# Altium integrated library TI Data Converters Digital to Analog Converter.IntLib: 1533 symbols (part 64 of 99)
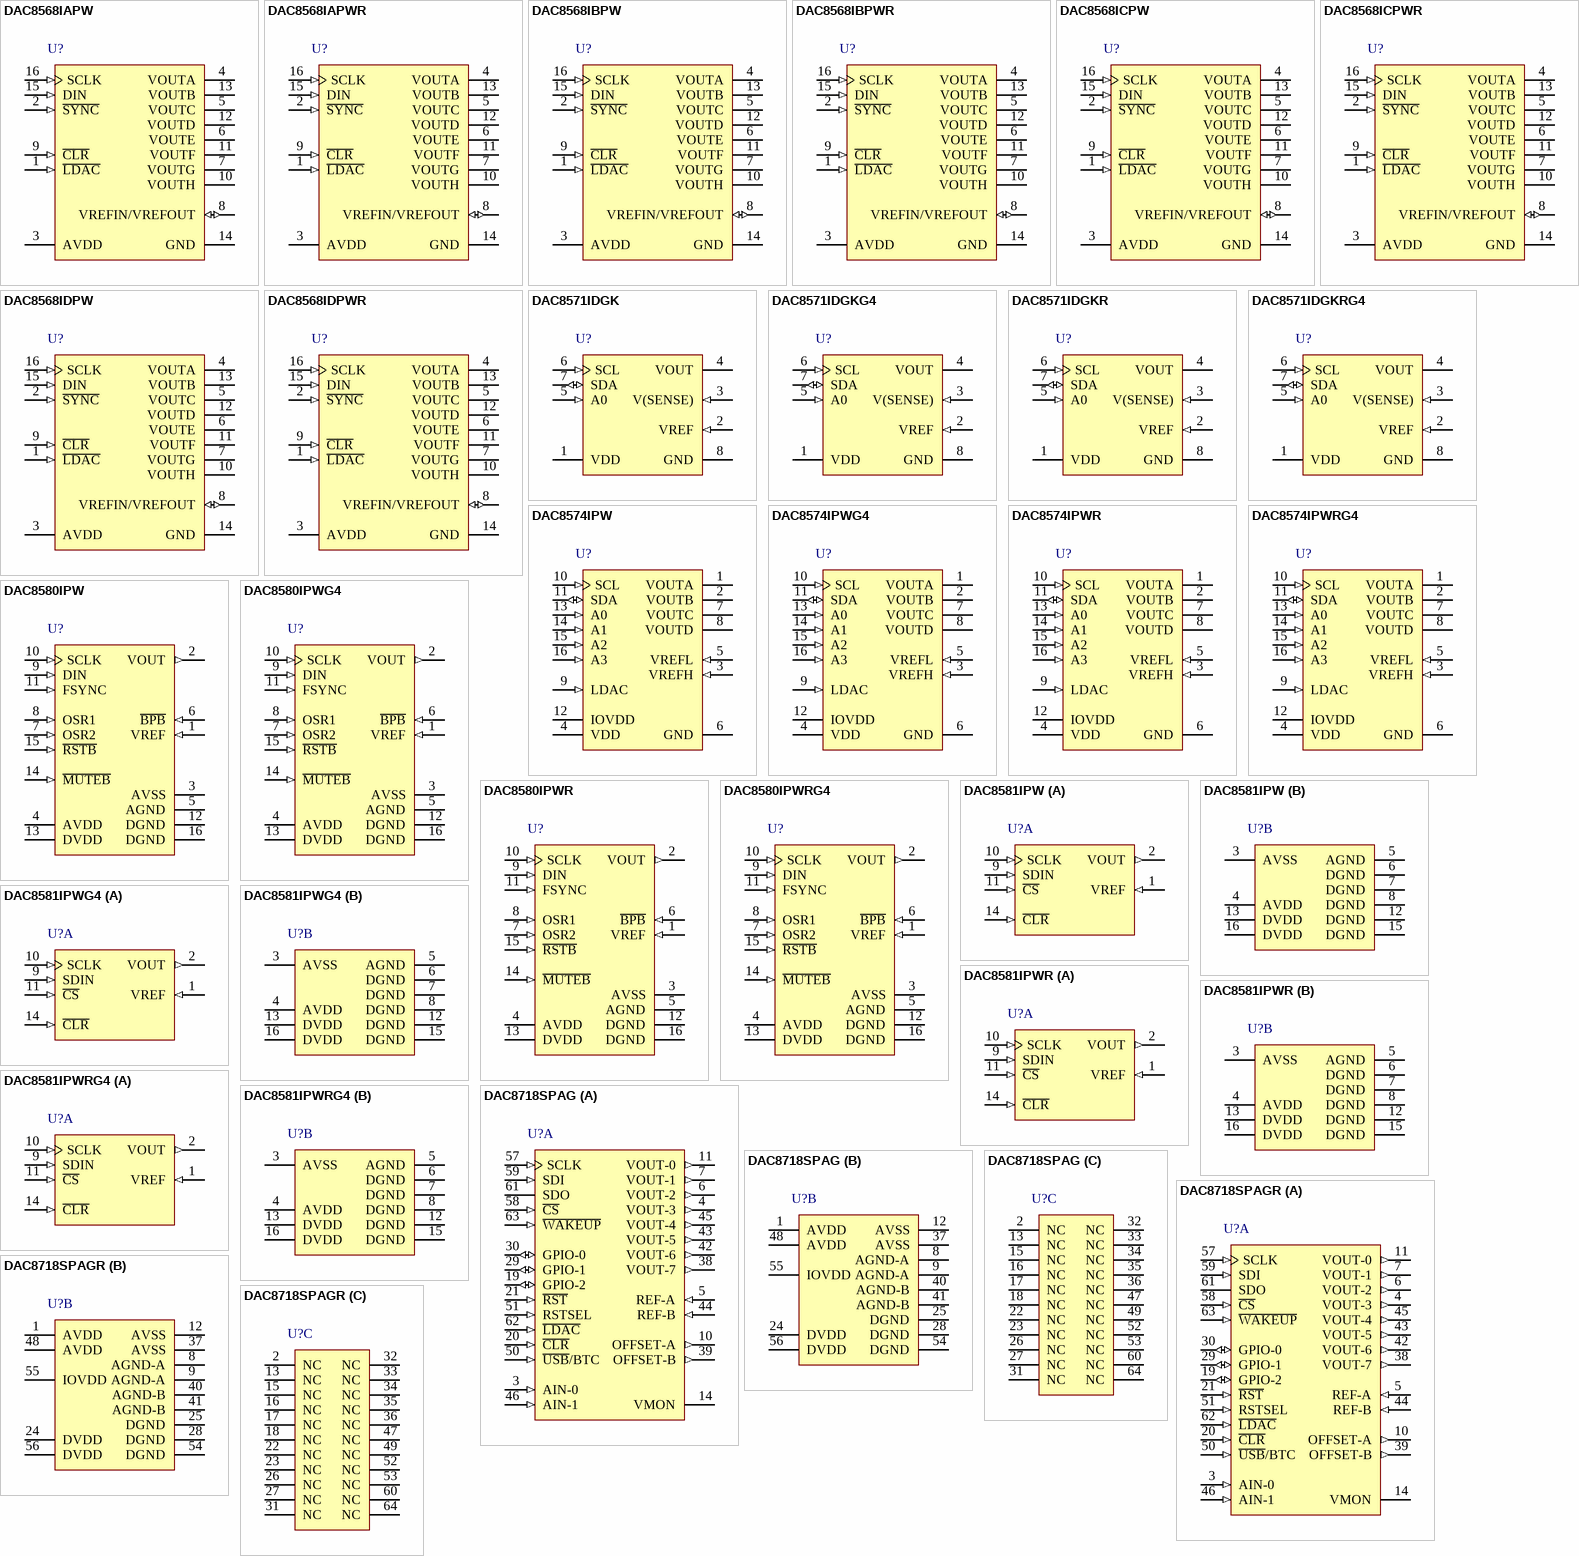
[diagram p136: symbols DAC8568IAPW to DAC8718SPAGR]

## DAC8568IBPW
designator U?
16-Bit, Octal Channel, Ultra-Low Glitch, Voltage Output DAC with 2.5 V, 2 ppm/degC Internal Reference, -40 to 125 degC, 16-pin SOP (PW16), Green (RoHS & no Sb/Br); Manufacturer: Texas Instruments; PartNumber: DAC8568IBPW; DAC Channels: 8; DNL(Max)(+/-LSB): 1; INL(Max)(+/-LSB): 12; Interface: Serial SPI; Power Consumption(Typ)(mW): 2.2; Resolution(Bits): 16; Settling Time(us): 5; SFDR(dB): 63; SNR(dB): 83; SubFamily: Precision DAC (=<10MSPS); DatasheetVersion: SBAS430D; PackageVersion: 4040064-4/G, 02/2011; PackageReference: PW16; PackageDescription: 16-Pin Plastic Small Outline, Body 5 x 4.4 mm, Pitch 0.65 mm; Supplier 1: Digi-Key; Supplier Part Number 1: 296-24445-5-ND; Supplier 2: Newark; Supplier Part Number 2: 09R4531; Supplier 3: Mouser; Supplier Part Number 3: 595-DAC8568IBPW; Eco-Plan: Green (RoHS & no Sb/Br); Mounting Technology: Surface Mount; Code_JEDEC: MO-153; ComponentLink1Description: Manufacturer URL; ComponentLink1URL: http://www.ti.com/; ComponentLink2Description: Datasheet; ComponentLink2URL: http://www.ti.com/general/docs/lit/getliterature.tsp?genericPartNumber=DAC8568&fileType=pdf; ComponentLink3Description: Package Specification; ComponentLink3URL: http://www.ti.com/lit/ml/mpds361/mpds361.pdf
footprint TI-PW16_N (SOP, 16-Leads, Body 5x4.4mm, Pitch 0.65mm, IPC Medium Density)
footprint TI-PW16_L (SOP, 16-Leads, Body 5x4.4mm, Pitch 0.65mm, IPC High Density)
footprint TI-PW16_M (SOP, 16-Leads, Body 5x4.4mm, Pitch 0.65mm, IPC Low Density)
pins: 1 ~{LDAC} (in) "Load DACs.", 2 ~{SYNC} (in) "Level-triggered control input (active low). This input is the frame synchronization signal for the input data. When S\Y\N\C\ goes low, it enables the input shift register, and data are sampled on subsequen falling clock (See Datasheet)", 3 AVDD (power) "Power-supply input, 2.7V to 5.5V", 4 VOUTA (hiz) "Analog output voltage from DAC A", 5 VOUTC (hiz) "Analog output voltage from DAC C", 6 VOUTE (hiz) "Analog output voltage from DAC E", 7 VOUTG (hiz) "Analog output voltage from DAC G", 8 VREFIN/VREFOUT (io) "Positive reference input / reference output 2.5V if internal reference used", 9 ~{CLR} (in) "Asynchronous clear input.", 10 VOUTH (hiz) "Analog output voltage from DAC H", 11 VOUTF (hiz) "Analog output voltage from DAC F", 12 VOUTD (hiz) "Analog output voltage from DAC D", 13 VOUTB (hiz) "Analog output voltage from DAC B", 14 GND (power) "Ground reference point for all circuitry on the devic", 15 DIN (in) "Serial data input. Data are clocked into the 32-bit input shift register on each falling edge of the serial clock input. Schmitt-Trigger logic input.", 16 SCLK (in) "Serial clock input. Data can be transferred at rates up to 50MHz. Schmitt-Trigger logic input."

## DAC8568IBPWR
designator U?
16-Bit, Octal Channel, Ultra-Low Glitch, Voltage Output DAC with 2.5 V, 2 ppm/degC Internal Reference, -40 to 125 degC, 16-pin SOP (PW16), Green (RoHS & no Sb/Br); Manufacturer: Texas Instruments; PartNumber: DAC8568IBPWR; DAC Channels: 8; DNL(Max)(+/-LSB): 1; INL(Max)(+/-LSB): 12; Interface: Serial SPI; Power Consumption(Typ)(mW): 2.2; Resolution(Bits): 16; Settling Time(us): 5; SFDR(dB): 63; SNR(dB): 83; SubFamily: Precision DAC (=<10MSPS); DatasheetVersion: SBAS430D; PackageVersion: 4040064-4/G, 02/2011; PackageReference: PW16; PackageDescription: 16-Pin Plastic Small Outline, Body 5 x 4.4 mm, Pitch 0.65 mm; Supplier 1: Digi-Key; Supplier Part Number 1: DAC8568IBPWR-ND; Supplier 2: Mouser; Supplier Part Number 2: 595-DAC8568IBPWR; Eco-Plan: Green (RoHS & no Sb/Br); Mounting Technology: Surface Mount; Code_JEDEC: MO-153; ComponentLink1Description: Manufacturer URL; ComponentLink1URL: http://www.ti.com/; ComponentLink2Description: Datasheet; ComponentLink2URL: http://www.ti.com/general/docs/lit/getliterature.tsp?genericPartNumber=DAC8568&fileType=pdf; ComponentLink3Description: Package Specification; ComponentLink3URL: http://www.ti.com/lit/ml/mpds361/mpds361.pdf
footprint TI-PW16_N (SOP, 16-Leads, Body 5x4.4mm, Pitch 0.65mm, IPC Medium Density)
footprint TI-PW16_L (SOP, 16-Leads, Body 5x4.4mm, Pitch 0.65mm, IPC High Density)
footprint TI-PW16_M (SOP, 16-Leads, Body 5x4.4mm, Pitch 0.65mm, IPC Low Density)
pins: 1 ~{LDAC} (in) "Load DACs.", 2 ~{SYNC} (in) "Level-triggered control input (active low). This input is the frame synchronization signal for the input data. When S\Y\N\C\ goes low, it enables the input shift register, and data are sampled on subsequen falling clock (See Datasheet)", 3 AVDD (power) "Power-supply input, 2.7V to 5.5V", 4 VOUTA (hiz) "Analog output voltage from DAC A", 5 VOUTC (hiz) "Analog output voltage from DAC C", 6 VOUTE (hiz) "Analog output voltage from DAC E", 7 VOUTG (hiz) "Analog output voltage from DAC G", 8 VREFIN/VREFOUT (io) "Positive reference input / reference output 2.5V if internal reference used", 9 ~{CLR} (in) "Asynchronous clear input.", 10 VOUTH (hiz) "Analog output voltage from DAC H", 11 VOUTF (hiz) "Analog output voltage from DAC F", 12 VOUTD (hiz) "Analog output voltage from DAC D", 13 VOUTB (hiz) "Analog output voltage from DAC B", 14 GND (power) "Ground reference point for all circuitry on the devic", 15 DIN (in) "Serial data input. Data are clocked into the 32-bit input shift register on each falling edge of the serial clock input. Schmitt-Trigger logic input.", 16 SCLK (in) "Serial clock input. Data can be transferred at rates up to 50MHz. Schmitt-Trigger logic input."

## DAC8568ICPW
designator U?
16-Bit, Octal Channel, Ultra-Low Glitch, Voltage Output DAC with 2.5 V, 2 ppm/degC Internal Reference, -40 to 125 degC, 16-pin SOP (PW16), Green (RoHS & no Sb/Br); Manufacturer: Texas Instruments; PartNumber: DAC8568ICPW; DAC Channels: 8; DNL(Max)(+/-LSB): 1; INL(Max)(+/-LSB): 12; Interface: Serial SPI; Power Consumption(Typ)(mW): 2.2; Resolution(Bits): 16; Settling Time(us): 5; SFDR(dB): 63; SNR(dB): 83; SubFamily: Precision DAC (=<10MSPS); DatasheetVersion: SBAS430D; PackageVersion: 4040064-4/G, 02/2011; PackageReference: PW16; PackageDescription: 16-Pin Plastic Small Outline, Body 5 x 4.4 mm, Pitch 0.65 mm; Supplier 1: Digi-Key; Supplier Part Number 1: 296-24446-5-ND; Supplier 2: Farnell; Supplier Part Number 2: 1735563; Supplier 3: Newark; Supplier Part Number 3: 08R4454; Supplier 4: Mouser; Supplier Part Number 4: 595-DAC8568ICPW; Eco-Plan: Green (RoHS & no Sb/Br); Mounting Technology: Surface Mount; Code_JEDEC: MO-153; ComponentLink1Description: Manufacturer URL; ComponentLink1URL: http://www.ti.com/; ComponentLink2Description: Datasheet; ComponentLink2URL: http://www.ti.com/general/docs/lit/getliterature.tsp?genericPartNumber=DAC8568&fileType=pdf; ComponentLink3Description: Package Specification; ComponentLink3URL: http://www.ti.com/lit/ml/mpds361/mpds361.pdf
footprint TI-PW16_N (SOP, 16-Leads, Body 5x4.4mm, Pitch 0.65mm, IPC Medium Density)
footprint TI-PW16_L (SOP, 16-Leads, Body 5x4.4mm, Pitch 0.65mm, IPC High Density)
footprint TI-PW16_M (SOP, 16-Leads, Body 5x4.4mm, Pitch 0.65mm, IPC Low Density)
pins: 1 ~{LDAC} (in) "Load DACs.", 2 ~{SYNC} (in) "Level-triggered control input (active low). This input is the frame synchronization signal for the input data. When S\Y\N\C\ goes low, it enables the input shift register, and data are sampled on subsequen falling clock (See Datasheet)", 3 AVDD (power) "Power-supply input, 2.7V to 5.5V", 4 VOUTA (hiz) "Analog output voltage from DAC A", 5 VOUTC (hiz) "Analog output voltage from DAC C", 6 VOUTE (hiz) "Analog output voltage from DAC E", 7 VOUTG (hiz) "Analog output voltage from DAC G", 8 VREFIN/VREFOUT (io) "Positive reference input / reference output 2.5V if internal reference used", 9 ~{CLR} (in) "Asynchronous clear input.", 10 VOUTH (hiz) "Analog output voltage from DAC H", 11 VOUTF (hiz) "Analog output voltage from DAC F", 12 VOUTD (hiz) "Analog output voltage from DAC D", 13 VOUTB (hiz) "Analog output voltage from DAC B", 14 GND (power) "Ground reference point for all circuitry on the devic", 15 DIN (in) "Serial data input. Data are clocked into the 32-bit input shift register on each falling edge of the serial clock input. Schmitt-Trigger logic input.", 16 SCLK (in) "Serial clock input. Data can be transferred at rates up to 50MHz. Schmitt-Trigger logic input."

## DAC8568ICPWR
designator U?
16-Bit, Octal Channel, Ultra-Low Glitch, Voltage Output DAC with 2.5 V, 2 ppm/degC Internal Reference, -40 to 125 degC, 16-pin SOP (PW16), Green (RoHS & no Sb/Br); Manufacturer: Texas Instruments; PartNumber: DAC8568ICPWR; DAC Channels: 8; DNL(Max)(+/-LSB): 1; INL(Max)(+/-LSB): 12; Interface: Serial SPI; Power Consumption(Typ)(mW): 2.2; Resolution(Bits): 16; Settling Time(us): 5; SFDR(dB): 63; SNR(dB): 83; SubFamily: Precision DAC (=<10MSPS); DatasheetVersion: SBAS430D; PackageVersion: 4040064-4/G, 02/2011; PackageReference: PW16; PackageDescription: 16-Pin Plastic Small Outline, Body 5 x 4.4 mm, Pitch 0.65 mm; Supplier 1: Digi-Key; Supplier Part Number 1: DAC8568ICPWR-ND; Supplier 2: Mouser; Supplier Part Number 2: 595-DAC8568ICPWR; Eco-Plan: Green (RoHS & no Sb/Br); Mounting Technology: Surface Mount; Code_JEDEC: MO-153; ComponentLink1Description: Manufacturer URL; ComponentLink1URL: http://www.ti.com/; ComponentLink2Description: Datasheet; ComponentLink2URL: http://www.ti.com/general/docs/lit/getliterature.tsp?genericPartNumber=DAC8568&fileType=pdf; ComponentLink3Description: Package Specification; ComponentLink3URL: http://www.ti.com/lit/ml/mpds361/mpds361.pdf
footprint TI-PW16_N (SOP, 16-Leads, Body 5x4.4mm, Pitch 0.65mm, IPC Medium Density)
footprint TI-PW16_L (SOP, 16-Leads, Body 5x4.4mm, Pitch 0.65mm, IPC High Density)
footprint TI-PW16_M (SOP, 16-Leads, Body 5x4.4mm, Pitch 0.65mm, IPC Low Density)
pins: 1 ~{LDAC} (in) "Load DACs.", 2 ~{SYNC} (in) "Level-triggered control input (active low). This input is the frame synchronization signal for the input data. When S\Y\N\C\ goes low, it enables the input shift register, and data are sampled on subsequen falling clock (See Datasheet)", 3 AVDD (power) "Power-supply input, 2.7V to 5.5V", 4 VOUTA (hiz) "Analog output voltage from DAC A", 5 VOUTC (hiz) "Analog output voltage from DAC C", 6 VOUTE (hiz) "Analog output voltage from DAC E", 7 VOUTG (hiz) "Analog output voltage from DAC G", 8 VREFIN/VREFOUT (io) "Positive reference input / reference output 2.5V if internal reference used", 9 ~{CLR} (in) "Asynchronous clear input.", 10 VOUTH (hiz) "Analog output voltage from DAC H", 11 VOUTF (hiz) "Analog output voltage from DAC F", 12 VOUTD (hiz) "Analog output voltage from DAC D", 13 VOUTB (hiz) "Analog output voltage from DAC B", 14 GND (power) "Ground reference point for all circuitry on the devic", 15 DIN (in) "Serial data input. Data are clocked into the 32-bit input shift register on each falling edge of the serial clock input. Schmitt-Trigger logic input.", 16 SCLK (in) "Serial clock input. Data can be transferred at rates up to 50MHz. Schmitt-Trigger logic input."

## DAC8568IDPW
designator U?
16-Bit, Octal Channel, Ultra-Low Glitch, Voltage Output DAC with 2.5 V, 2 ppm/degC Internal Reference, -40 to 125 degC, 16-pin SOP (PW16), Green (RoHS & no Sb/Br); Manufacturer: Texas Instruments; PartNumber: DAC8568IDPW; DAC Channels: 8; DNL(Max)(+/-LSB): 1; INL(Max)(+/-LSB): 12; Interface: Serial SPI; Power Consumption(Typ)(mW): 2.2; Resolution(Bits): 16; Settling Time(us): 5; SFDR(dB): 63; SNR(dB): 83; SubFamily: Precision DAC (=<10MSPS); DatasheetVersion: SBAS430D; PackageVersion: 4040064-4/G, 02/2011; PackageReference: PW16; PackageDescription: 16-Pin Plastic Small Outline, Body 5 x 4.4 mm, Pitch 0.65 mm; Supplier 1: Digi-Key; Supplier Part Number 1: 296-24447-5-ND; Supplier 2: Newark; Supplier Part Number 2: 09R4534; Supplier 3: Mouser; Supplier Part Number 3: 595-DAC8568IDPW; Eco-Plan: Green (RoHS & no Sb/Br); Mounting Technology: Surface Mount; Code_JEDEC: MO-153; ComponentLink1Description: Manufacturer URL; ComponentLink1URL: http://www.ti.com/; ComponentLink2Description: Datasheet; ComponentLink2URL: http://www.ti.com/general/docs/lit/getliterature.tsp?genericPartNumber=DAC8568&fileType=pdf; ComponentLink3Description: Package Specification; ComponentLink3URL: http://www.ti.com/lit/ml/mpds361/mpds361.pdf
footprint TI-PW16_N (SOP, 16-Leads, Body 5x4.4mm, Pitch 0.65mm, IPC Medium Density)
footprint TI-PW16_L (SOP, 16-Leads, Body 5x4.4mm, Pitch 0.65mm, IPC High Density)
footprint TI-PW16_M (SOP, 16-Leads, Body 5x4.4mm, Pitch 0.65mm, IPC Low Density)
pins: 1 ~{LDAC} (in) "Load DACs.", 2 ~{SYNC} (in) "Level-triggered control input (active low). This input is the frame synchronization signal for the input data. When S\Y\N\C\ goes low, it enables the input shift register, and data are sampled on subsequen falling clock (See Datasheet)", 3 AVDD (power) "Power-supply input, 2.7V to 5.5V", 4 VOUTA (hiz) "Analog output voltage from DAC A", 5 VOUTC (hiz) "Analog output voltage from DAC C", 6 VOUTE (hiz) "Analog output voltage from DAC E", 7 VOUTG (hiz) "Analog output voltage from DAC G", 8 VREFIN/VREFOUT (io) "Positive reference input / reference output 2.5V if internal reference used", 9 ~{CLR} (in) "Asynchronous clear input.", 10 VOUTH (hiz) "Analog output voltage from DAC H", 11 VOUTF (hiz) "Analog output voltage from DAC F", 12 VOUTD (hiz) "Analog output voltage from DAC D", 13 VOUTB (hiz) "Analog output voltage from DAC B", 14 GND (power) "Ground reference point for all circuitry on the devic", 15 DIN (in) "Serial data input. Data are clocked into the 32-bit input shift register on each falling edge of the serial clock input. Schmitt-Trigger logic input.", 16 SCLK (in) "Serial clock input. Data can be transferred at rates up to 50MHz. Schmitt-Trigger logic input."

## DAC8568IDPWR
designator U?
16-Bit, Octal Channel, Ultra-Low Glitch, Voltage Output DAC with 2.5 V, 2 ppm/degC Internal Reference, -40 to 125 degC, 16-pin SOP (PW16), Green (RoHS & no Sb/Br); Manufacturer: Texas Instruments; PartNumber: DAC8568IDPWR; DAC Channels: 8; DNL(Max)(+/-LSB): 1; INL(Max)(+/-LSB): 12; Interface: Serial SPI; Power Consumption(Typ)(mW): 2.2; Resolution(Bits): 16; Settling Time(us): 5; SFDR(dB): 63; SNR(dB): 83; SubFamily: Precision DAC (=<10MSPS); DatasheetVersion: SBAS430D; PackageVersion: 4040064-4/G, 02/2011; PackageReference: PW16; PackageDescription: 16-Pin Plastic Small Outline, Body 5 x 4.4 mm, Pitch 0.65 mm; Supplier 1: Digi-Key; Supplier Part Number 1: DAC8568IDPWR-ND; Supplier 2: Mouser; Supplier Part Number 2: 595-DAC8568IDPWR; Eco-Plan: Green (RoHS & no Sb/Br); Mounting Technology: Surface Mount; Code_JEDEC: MO-153; ComponentLink1Description: Manufacturer URL; ComponentLink1URL: http://www.ti.com/; ComponentLink2Description: Datasheet; ComponentLink2URL: http://www.ti.com/general/docs/lit/getliterature.tsp?genericPartNumber=DAC8568&fileType=pdf; ComponentLink3Description: Package Specification; ComponentLink3URL: http://www.ti.com/lit/ml/mpds361/mpds361.pdf
footprint TI-PW16_N (SOP, 16-Leads, Body 5x4.4mm, Pitch 0.65mm, IPC Medium Density)
footprint TI-PW16_L (SOP, 16-Leads, Body 5x4.4mm, Pitch 0.65mm, IPC High Density)
footprint TI-PW16_M (SOP, 16-Leads, Body 5x4.4mm, Pitch 0.65mm, IPC Low Density)
pins: 1 ~{LDAC} (in) "Load DACs.", 2 ~{SYNC} (in) "Level-triggered control input (active low). This input is the frame synchronization signal for the input data. When S\Y\N\C\ goes low, it enables the input shift register, and data are sampled on subsequen falling clock (See Datasheet)", 3 AVDD (power) "Power-supply input, 2.7V to 5.5V", 4 VOUTA (hiz) "Analog output voltage from DAC A", 5 VOUTC (hiz) "Analog output voltage from DAC C", 6 VOUTE (hiz) "Analog output voltage from DAC E", 7 VOUTG (hiz) "Analog output voltage from DAC G", 8 VREFIN/VREFOUT (io) "Positive reference input / reference output 2.5V if internal reference used", 9 ~{CLR} (in) "Asynchronous clear input.", 10 VOUTH (hiz) "Analog output voltage from DAC H", 11 VOUTF (hiz) "Analog output voltage from DAC F", 12 VOUTD (hiz) "Analog output voltage from DAC D", 13 VOUTB (hiz) "Analog output voltage from DAC B", 14 GND (power) "Ground reference point for all circuitry on the devic", 15 DIN (in) "Serial data input. Data are clocked into the 32-bit input shift register on each falling edge of the serial clock input. Schmitt-Trigger logic input.", 16 SCLK (in) "Serial clock input. Data can be transferred at rates up to 50MHz. Schmitt-Trigger logic input."

## DAC8571IDGK
designator U?
Low-Power Rail-to-Rail Output 16-Bit I2C Input DAC, -40 to 105 degC, 8-pin SOP (DGK8), Green (RoHS & no Sb/Br); Manufacturer: Texas Instruments; PartNumber: DAC8571IDGK; DAC Channels: 1; INL(Max)(+/-LSB): 65; Interface: Serial I2C; Power Consumption(Typ)(mW): 0.42; Resolution(Bits): 16; Settling Time(us): 8; SubFamily: Precision DAC (=<10MSPS); DatasheetVersion: SLAS373A; PackageVersion: 4073329/E, 05/2006; PackageReference: DGK8; PackageDescription: 8-Pin Thin Small Outline, Body 3 x 3 mm, Pitch 0.65 mm; Supplier 1: Digi-Key; Supplier Part Number 1: 296-26051-5-ND; Supplier 2: Newark; Supplier Part Number 2: 20H5068; Supplier 3: Mouser; Supplier Part Number 3: 595-DAC8571IDGK; DNL(Max)(+/-LSB): 1; Eco-Plan: Green (RoHS & no Sb/Br); Mounting Technology: Surface Mount; Code_JEDEC: MO-187; ComponentLink1Description: Manufacturer URL; ComponentLink1URL: http://www.ti.com/; ComponentLink2Description: Datasheet; ComponentLink2URL: http://www.ti.com/general/docs/lit/getliterature.tsp?genericPartNumber=DAC8571&fileType=pdf; ComponentLink3Description: Package Specification; ComponentLink3URL: http://www.ti.com/litv/pdf/mpds028d
footprint TI-DGK8_N (SOP, 8-Leads, Body 3x3mm, Pitch 0.65mm, IPC Medium Density)
footprint TI-DGK8_L (SOP, 8-Leads, Body 3x3mm, Pitch 0.65mm, IPC High Density)
footprint TI-DGK8_M (SOP, 8-Leads, Body 3x3mm, Pitch 0.65mm, IPC Low Density)
pins: 1 VDD (power) "Analog voltage supply input", 2 VREF (in) "Positive reference voltage input", 3 V(SENSE) (in) "Analog output sense", 4 VOUT (hiz) "Analog output voltage from DAC", 5 A0 (in) "Device address select", 6 SCL (in) "Serial clock input", 7 SDA (io) "Serial data input/output", 8 GND (power) "Ground reference point for all circuitry on the part"

## DAC8571IDGKG4
designator U?
Low-Power Rail-to-Rail Output 16-Bit I2C Input DAC, -40 to 105 degC, 8-pin SOP (DGK8), Green (RoHS & no Sb/Br); Manufacturer: Texas Instruments; PartNumber: DAC8571IDGKG4; DAC Channels: 1; INL(Max)(+/-LSB): 65; Interface: Serial I2C; Power Consumption(Typ)(mW): 0.42; Resolution(Bits): 16; Settling Time(us): 8; SubFamily: Precision DAC (=<10MSPS); DatasheetVersion: SLAS373A; PackageVersion: 4073329/E, 05/2006; PackageReference: DGK8; PackageDescription: 8-Pin Thin Small Outline, Body 3 x 3 mm, Pitch 0.65 mm; Supplier 1: Digi-Key; Supplier Part Number 1: DAC8571IDGKG4-ND; Supplier 2: Farnell; Supplier Part Number 2: 1206883; Supplier 3: Newark; Supplier Part Number 3: 96K8426; Supplier 4: Mouser; Supplier Part Number 4: 595-DAC8571IDGKG4; DNL(Max)(+/-LSB): 1; Eco-Plan: Green (RoHS & no Sb/Br); Mounting Technology: Surface Mount; Code_JEDEC: MO-187; ComponentLink1Description: Manufacturer URL; ComponentLink1URL: http://www.ti.com/; ComponentLink2Description: Datasheet; ComponentLink2URL: http://www.ti.com/general/docs/lit/getliterature.tsp?genericPartNumber=DAC8571&fileType=pdf; ComponentLink3Description: Package Specification; ComponentLink3URL: http://www.ti.com/litv/pdf/mpds028d
footprint TI-DGK8_N (SOP, 8-Leads, Body 3x3mm, Pitch 0.65mm, IPC Medium Density)
footprint TI-DGK8_L (SOP, 8-Leads, Body 3x3mm, Pitch 0.65mm, IPC High Density)
footprint TI-DGK8_M (SOP, 8-Leads, Body 3x3mm, Pitch 0.65mm, IPC Low Density)
pins: 1 VDD (power) "Analog voltage supply input", 2 VREF (in) "Positive reference voltage input", 3 V(SENSE) (in) "Analog output sense", 4 VOUT (hiz) "Analog output voltage from DAC", 5 A0 (in) "Device address select", 6 SCL (in) "Serial clock input", 7 SDA (io) "Serial data input/output", 8 GND (power) "Ground reference point for all circuitry on the part"

## DAC8571IDGKR
designator U?
Low-Power Rail-to-Rail Output 16-Bit I2C Input DAC, -40 to 105 degC, 8-pin SOP (DGK8), Green (RoHS & no Sb/Br); Manufacturer: Texas Instruments; PartNumber: DAC8571IDGKR; DAC Channels: 1; INL(Max)(+/-LSB): 65; Interface: Serial I2C; Power Consumption(Typ)(mW): 0.42; Resolution(Bits): 16; Settling Time(us): 8; SubFamily: Precision DAC (=<10MSPS); DatasheetVersion: SLAS373A; PackageVersion: 4073329/E, 05/2006; PackageReference: DGK8; PackageDescription: 8-Pin Thin Small Outline, Body 3 x 3 mm, Pitch 0.65 mm; Supplier 1: Digi-Key; Supplier Part Number 1: 296-14307-2-ND; Supplier 2: Digi-Key; Supplier Part Number 2: 296-14307-1-ND; Supplier 3: Digi-Key; Supplier Part Number 3: 296-14307-6-ND; Supplier 4: Newark; Supplier Part Number 4: 20H5069; Supplier 5: Mouser; Supplier Part Number 5: 595-DAC8571IDGKR; DNL(Max)(+/-LSB): 1; Eco-Plan: Green (RoHS & no Sb/Br); Mounting Technology: Surface Mount; Code_JEDEC: MO-187; ComponentLink1Description: Manufacturer URL; ComponentLink1URL: http://www.ti.com/; ComponentLink2Description: Datasheet; ComponentLink2URL: http://www.ti.com/general/docs/lit/getliterature.tsp?genericPartNumber=DAC8571&fileType=pdf; ComponentLink3Description: Package Specification; ComponentLink3URL: http://www.ti.com/litv/pdf/mpds028d
footprint TI-DGK8_N (SOP, 8-Leads, Body 3x3mm, Pitch 0.65mm, IPC Medium Density)
footprint TI-DGK8_L (SOP, 8-Leads, Body 3x3mm, Pitch 0.65mm, IPC High Density)
footprint TI-DGK8_M (SOP, 8-Leads, Body 3x3mm, Pitch 0.65mm, IPC Low Density)
pins: 1 VDD (power) "Analog voltage supply input", 2 VREF (in) "Positive reference voltage input", 3 V(SENSE) (in) "Analog output sense", 4 VOUT (hiz) "Analog output voltage from DAC", 5 A0 (in) "Device address select", 6 SCL (in) "Serial clock input", 7 SDA (io) "Serial data input/output", 8 GND (power) "Ground reference point for all circuitry on the part"

## DAC8571IDGKRG4
designator U?
Low-Power Rail-to-Rail Output 16-Bit I2C Input DAC, -40 to 105 degC, 8-pin SOP (DGK8), Green (RoHS & no Sb/Br); Manufacturer: Texas Instruments; PartNumber: DAC8571IDGKRG4; DAC Channels: 1; INL(Max)(+/-LSB): 65; Interface: Serial I2C; Power Consumption(Typ)(mW): 0.42; Resolution(Bits): 16; Settling Time(us): 8; SubFamily: Precision DAC (=<10MSPS); DatasheetVersion: SLAS373A; PackageVersion: 4073329/E, 05/2006; PackageReference: DGK8; PackageDescription: 8-Pin Thin Small Outline, Body 3 x 3 mm, Pitch 0.65 mm; Supplier 1: Digi-Key; Supplier Part Number 1: DAC8571IDGKRG4-ND; Supplier 2: Newark; Supplier Part Number 2: 53K9300; Supplier 3: Mouser; Supplier Part Number 3: 595-DAC8571IDGKRG4; DNL(Max)(+/-LSB): 1; Eco-Plan: Green (RoHS & no Sb/Br); Mounting Technology: Surface Mount; Code_JEDEC: MO-187; ComponentLink1Description: Manufacturer URL; ComponentLink1URL: http://www.ti.com/; ComponentLink2Description: Datasheet; ComponentLink2URL: http://www.ti.com/general/docs/lit/getliterature.tsp?genericPartNumber=DAC8571&fileType=pdf; ComponentLink3Description: Package Specification; ComponentLink3URL: http://www.ti.com/litv/pdf/mpds028d
footprint TI-DGK8_N (SOP, 8-Leads, Body 3x3mm, Pitch 0.65mm, IPC Medium Density)
footprint TI-DGK8_L (SOP, 8-Leads, Body 3x3mm, Pitch 0.65mm, IPC High Density)
footprint TI-DGK8_M (SOP, 8-Leads, Body 3x3mm, Pitch 0.65mm, IPC Low Density)
pins: 1 VDD (power) "Analog voltage supply input", 2 VREF (in) "Positive reference voltage input", 3 V(SENSE) (in) "Analog output sense", 4 VOUT (hiz) "Analog output voltage from DAC", 5 A0 (in) "Device address select", 6 SCL (in) "Serial clock input", 7 SDA (io) "Serial data input/output", 8 GND (power) "Ground reference point for all circuitry on the part"

## DAC8574IPW
designator U?
Low-Power Quad Rail-to-Rail Output 16-Bit I2C Input DAC, -40 to 105 degC, 16-pin SOP (PW16), Green (RoHS & no Sb/Br); Manufacturer: Texas Instruments; PartNumber: DAC8574IPW; DAC Channels: 4; DNL(Max)(+/-LSB): 1; INL(Max)(+/-LSB): 64; Interface: Serial I2C; Power Consumption(Typ)(mW): 2.7; Resolution(Bits): 16; Settling Time(us): 10; SubFamily: Precision DAC (=<10MSPS); DatasheetVersion: SLAS377B; PackageVersion: 4040064-4/G, 02/2011; PackageReference: PW16; PackageDescription: 16-Pin Plastic Small Outline, Body 5 x 4.4 mm, Pitch 0.65 mm; Supplier 1: Digi-Key; Supplier Part Number 1: 296-14170-5-ND; Supplier 2: Newark; Supplier Part Number 2: 72K7278; Supplier 3: Mouser; Supplier Part Number 3: 595-DAC8574IPW; Eco-Plan: Green (RoHS & no Sb/Br); Mounting Technology: Surface Mount; Code_JEDEC: MO-153; ComponentLink1Description: Manufacturer URL; ComponentLink1URL: http://www.ti.com/; ComponentLink2Description: Datasheet; ComponentLink2URL: http://www.ti.com/general/docs/lit/getliterature.tsp?genericPartNumber=DAC8574&fileType=pdf; ComponentLink3Description: Package Specification; ComponentLink3URL: http://www.ti.com/lit/ml/mpds361/mpds361.pdf
footprint TI-PW16_N (SOP, 16-Leads, Body 5x4.4mm, Pitch 0.65mm, IPC Medium Density)
footprint TI-PW16_L (SOP, 16-Leads, Body 5x4.4mm, Pitch 0.65mm, IPC High Density)
footprint TI-PW16_M (SOP, 16-Leads, Body 5x4.4mm, Pitch 0.65mm, IPC Low Density)
pins: 1 VOUTA (hiz) "Analog output voltage from DAC A", 2 VOUTB (hiz) "Analog output voltage from DAC B", 3 VREFH (in) "Positive reference voltage input", 4 VDD (power) "Analog voltage supply input", 5 VREFL (in) "Negative reference voltage input", 6 GND (power) "Ground reference point for all circuitry on the part", 7 VOUTC (hiz) "Analog output voltage from DAC C", 8 VOUTD (hiz) "Analog output voltage from DAC D", 9 LDAC (in) "H/W synchronous VOUT update", 10 SCL (in) "Serial clock input", 11 SDA (io) "Serial data input", 12 IOVDD (power) "I/O voltage supply input", 13 A0 (in) "Device address select - I2C", 14 A1 (in) "Device address select - I2C", 15 A2 (in) "Device address select - Extended", 16 A3 (in) "Device address select - Extended"

## DAC8574IPWG4
designator U?
Low-Power Quad Rail-to-Rail Output 16-Bit I2C Input DAC, -40 to 105 degC, 16-pin SOP (PW16), Green (RoHS & no Sb/Br); Manufacturer: Texas Instruments; PartNumber: DAC8574IPWG4; DAC Channels: 4; DNL(Max)(+/-LSB): 1; INL(Max)(+/-LSB): 64; Interface: Serial I2C; Power Consumption(Typ)(mW): 2.7; Resolution(Bits): 16; Settling Time(us): 10; SubFamily: Precision DAC (=<10MSPS); DatasheetVersion: SLAS377B; PackageVersion: 4040064-4/G, 02/2011; PackageReference: PW16; PackageDescription: 16-Pin Plastic Small Outline, Body 5 x 4.4 mm, Pitch 0.65 mm; Supplier 1: Digi-Key; Supplier Part Number 1: DAC8574IPWG4-ND; Supplier 2: Farnell; Supplier Part Number 2: 1206884; Supplier 3: Newark; Supplier Part Number 3: 96K8427; Supplier 4: Newark; Supplier Part Number 4: 53K9301; Supplier 5: Mouser; Supplier Part Number 5: 595-DAC8574IPWG4; Eco-Plan: Green (RoHS & no Sb/Br); Mounting Technology: Surface Mount; Code_JEDEC: MO-153; ComponentLink1Description: Manufacturer URL; ComponentLink1URL: http://www.ti.com/; ComponentLink2Description: Datasheet; ComponentLink2URL: http://www.ti.com/general/docs/lit/getliterature.tsp?genericPartNumber=DAC8574&fileType=pdf; ComponentLink3Description: Package Specification; ComponentLink3URL: http://www.ti.com/lit/ml/mpds361/mpds361.pdf
footprint TI-PW16_N (SOP, 16-Leads, Body 5x4.4mm, Pitch 0.65mm, IPC Medium Density)
footprint TI-PW16_L (SOP, 16-Leads, Body 5x4.4mm, Pitch 0.65mm, IPC High Density)
footprint TI-PW16_M (SOP, 16-Leads, Body 5x4.4mm, Pitch 0.65mm, IPC Low Density)
pins: 1 VOUTA (hiz) "Analog output voltage from DAC A", 2 VOUTB (hiz) "Analog output voltage from DAC B", 3 VREFH (in) "Positive reference voltage input", 4 VDD (power) "Analog voltage supply input", 5 VREFL (in) "Negative reference voltage input", 6 GND (power) "Ground reference point for all circuitry on the part", 7 VOUTC (hiz) "Analog output voltage from DAC C", 8 VOUTD (hiz) "Analog output voltage from DAC D", 9 LDAC (in) "H/W synchronous VOUT update", 10 SCL (in) "Serial clock input", 11 SDA (io) "Serial data input", 12 IOVDD (power) "I/O voltage supply input", 13 A0 (in) "Device address select - I2C", 14 A1 (in) "Device address select - I2C", 15 A2 (in) "Device address select - Extended", 16 A3 (in) "Device address select - Extended"

## DAC8574IPWR
designator U?
Low-Power Quad Rail-to-Rail Output 16-Bit I2C Input DAC, -40 to 105 degC, 16-pin SOP (PW16), Green (RoHS & no Sb/Br); Manufacturer: Texas Instruments; PartNumber: DAC8574IPWR; DAC Channels: 4; DNL(Max)(+/-LSB): 1; INL(Max)(+/-LSB): 64; Interface: Serial I2C; Power Consumption(Typ)(mW): 2.7; Resolution(Bits): 16; Settling Time(us): 10; SubFamily: Precision DAC (=<10MSPS); DatasheetVersion: SLAS377B; PackageVersion: 4040064-4/G, 02/2011; PackageReference: PW16; PackageDescription: 16-Pin Plastic Small Outline, Body 5 x 4.4 mm, Pitch 0.65 mm; Supplier 1: Digi-Key; Supplier Part Number 1: DAC8574IPWR-ND; Supplier 2: Mouser; Supplier Part Number 2: 595-DAC8574IPWR; Eco-Plan: Green (RoHS & no Sb/Br); Mounting Technology: Surface Mount; Code_JEDEC: MO-153; ComponentLink1Description: Manufacturer URL; ComponentLink1URL: http://www.ti.com/; ComponentLink2Description: Datasheet; ComponentLink2URL: http://www.ti.com/general/docs/lit/getliterature.tsp?genericPartNumber=DAC8574&fileType=pdf; ComponentLink3Description: Package Specification; ComponentLink3URL: http://www.ti.com/lit/ml/mpds361/mpds361.pdf
footprint TI-PW16_N (SOP, 16-Leads, Body 5x4.4mm, Pitch 0.65mm, IPC Medium Density)
footprint TI-PW16_L (SOP, 16-Leads, Body 5x4.4mm, Pitch 0.65mm, IPC High Density)
footprint TI-PW16_M (SOP, 16-Leads, Body 5x4.4mm, Pitch 0.65mm, IPC Low Density)
pins: 1 VOUTA (hiz) "Analog output voltage from DAC A", 2 VOUTB (hiz) "Analog output voltage from DAC B", 3 VREFH (in) "Positive reference voltage input", 4 VDD (power) "Analog voltage supply input", 5 VREFL (in) "Negative reference voltage input", 6 GND (power) "Ground reference point for all circuitry on the part", 7 VOUTC (hiz) "Analog output voltage from DAC C", 8 VOUTD (hiz) "Analog output voltage from DAC D", 9 LDAC (in) "H/W synchronous VOUT update", 10 SCL (in) "Serial clock input", 11 SDA (io) "Serial data input", 12 IOVDD (power) "I/O voltage supply input", 13 A0 (in) "Device address select - I2C", 14 A1 (in) "Device address select - I2C", 15 A2 (in) "Device address select - Extended", 16 A3 (in) "Device address select - Extended"

## DAC8574IPWRG4
designator U?
Low-Power Quad Rail-to-Rail Output 16-Bit I2C Input DAC, -40 to 105 degC, 16-pin SOP (PW16), Green (RoHS & no Sb/Br); Manufacturer: Texas Instruments; PartNumber: DAC8574IPWRG4; DAC Channels: 4; DNL(Max)(+/-LSB): 1; INL(Max)(+/-LSB): 64; Interface: Serial I2C; Power Consumption(Typ)(mW): 2.7; Resolution(Bits): 16; Settling Time(us): 10; SubFamily: Precision DAC (=<10MSPS); DatasheetVersion: SLAS377B; PackageVersion: 4040064-4/G, 02/2011; PackageReference: PW16; PackageDescription: 16-Pin Plastic Small Outline, Body 5 x 4.4 mm, Pitch 0.65 mm; Supplier 1: Digi-Key; Supplier Part Number 1: DAC8574IPWRG4-ND; Supplier 2: Mouser; Supplier Part Number 2: 595-DAC8574IPWRG4; Eco-Plan: Green (RoHS & no Sb/Br); Mounting Technology: Surface Mount; Code_JEDEC: MO-153; ComponentLink1Description: Manufacturer URL; ComponentLink1URL: http://www.ti.com/; ComponentLink2Description: Datasheet; ComponentLink2URL: http://www.ti.com/general/docs/lit/getliterature.tsp?genericPartNumber=DAC8574&fileType=pdf; ComponentLink3Description: Package Specification; ComponentLink3URL: http://www.ti.com/lit/ml/mpds361/mpds361.pdf
footprint TI-PW16_N (SOP, 16-Leads, Body 5x4.4mm, Pitch 0.65mm, IPC Medium Density)
footprint TI-PW16_L (SOP, 16-Leads, Body 5x4.4mm, Pitch 0.65mm, IPC High Density)
footprint TI-PW16_M (SOP, 16-Leads, Body 5x4.4mm, Pitch 0.65mm, IPC Low Density)
pins: 1 VOUTA (hiz) "Analog output voltage from DAC A", 2 VOUTB (hiz) "Analog output voltage from DAC B", 3 VREFH (in) "Positive reference voltage input", 4 VDD (power) "Analog voltage supply input", 5 VREFL (in) "Negative reference voltage input", 6 GND (power) "Ground reference point for all circuitry on the part", 7 VOUTC (hiz) "Analog output voltage from DAC C", 8 VOUTD (hiz) "Analog output voltage from DAC D", 9 LDAC (in) "H/W synchronous VOUT update", 10 SCL (in) "Serial clock input", 11 SDA (io) "Serial data input", 12 IOVDD (power) "I/O voltage supply input", 13 A0 (in) "Device address select - I2C", 14 A1 (in) "Device address select - I2C", 15 A2 (in) "Device address select - Extended", 16 A3 (in) "Device address select - Extended"

## DAC8580IPW
designator U?
16-Bit, High Speed, Low Noise, Voltage Output, Digital to Analog Converter, -40 to 85 degC, 16-pin SOP (PW16), Green (RoHS & no Sb/Br); Manufacturer: Texas Instruments; PartNumber: DAC8580IPW; DAC Channels: 1; Interface: Serial SPI; Power Consumption(Typ)(mW): 175; Resolution(Bits): 16; Settling Time(us): 0.65; SFDR(dB): 100; SNR(dB): 110; SubFamily: Precision DAC (=<10MSPS); DatasheetVersion: SLAS458B; PackageVersion: 4040064-4/G, 02/2011; PackageReference: PW16; PackageDescription: 16-Pin Plastic Small Outline, Body 5 x 4.4 mm, Pitch 0.65 mm; Supplier 1: Digi-Key; Supplier Part Number 1: 296-18311-5-ND; Supplier 2: Newark; Supplier Part Number 2: 53K9302; Supplier 3: Mouser; Supplier Part Number 3: 595-DAC8580IPW; DNL(Max)(+/-LSB): 1; Eco-Plan: Green (RoHS & no Sb/Br); Mounting Technology: Surface Mount; Code_JEDEC: MO-153; ComponentLink1Description: Manufacturer URL; ComponentLink1URL: http://www.ti.com/; ComponentLink2Description: Datasheet; ComponentLink2URL: http://www.ti.com/general/docs/lit/getliterature.tsp?genericPartNumber=DAC8580&fileType=pdf; ComponentLink3Description: Package Specification; ComponentLink3URL: http://www.ti.com/lit/ml/mpds361/mpds361.pdf
footprint TI-PW16_N (SOP, 16-Leads, Body 5x4.4mm, Pitch 0.65mm, IPC Medium Density)
footprint TI-PW16_L (SOP, 16-Leads, Body 5x4.4mm, Pitch 0.65mm, IPC High Density)
footprint TI-PW16_M (SOP, 16-Leads, Body 5x4.4mm, Pitch 0.65mm, IPC Low Density)
pins: 1 VREF (in) "Reference input voltage; 3 V to AVDD.", 2 VOUT (out) "DAC output voltage; output swing is +/-VREF", 3 AVSS (power) "Negative analog supply voltage; tie to -5 V", 4 AVDD (power) "Positive analog supply voltage; tie to +5 V", 5 AGND (power) "Ground reference for analog circuitry of the device", 6 ~{BPB} (in) "Active-low, asynchronous digital input for filter bypass", 7 OSR2 (in) "Digital input for selecting the oversampling ratio", 8 OSR1 (in) "Digital input for selecting the oversampling ratio", 9 DIN (in) "Digital input, serial data", 10 SCLK (in) "Digital input, serial bit clock", 11 FSYNC (in) "Digital input. FSYNC is word clock.", 12 DGND (power) "Ground reference for digital circuitry", 13 DVDD (power) "Positive digital supply, 1.8-V to 5.5-V compatible", 14 ~{MUTEB} (in) "Digital input, actime low, for forcing the output to mid-scale.", 15 ~{RSTB} (in) "Filter reset. Active-low, asynchronous digital input for disabling all digital filter activity.", 16 DGND (power) "Must connect to digital ground reference to ensure correct operation."

## DAC8580IPWG4
designator U?
16-Bit, High Speed, Low Noise, Voltage Output, Digital to Analog Converter, -40 to 85 degC, 16-pin SOP (PW16), Green (RoHS & no Sb/Br); Manufacturer: Texas Instruments; PartNumber: DAC8580IPWG4; DAC Channels: 1; Interface: Serial SPI; Power Consumption(Typ)(mW): 175; Resolution(Bits): 16; Settling Time(us): 0.65; SFDR(dB): 100; SNR(dB): 110; SubFamily: Precision DAC (=<10MSPS); DatasheetVersion: SLAS458B; PackageVersion: 4040064-4/G, 02/2011; PackageReference: PW16; PackageDescription: 16-Pin Plastic Small Outline, Body 5 x 4.4 mm, Pitch 0.65 mm; Supplier 1: Digi-Key; Supplier Part Number 1: DAC8580IPWG4-ND; Supplier 2: Mouser; Supplier Part Number 2: 595-DAC8580IPWG4; DNL(Max)(+/-LSB): 1; Eco-Plan: Green (RoHS & no Sb/Br); Mounting Technology: Surface Mount; Code_JEDEC: MO-153; ComponentLink1Description: Manufacturer URL; ComponentLink1URL: http://www.ti.com/; ComponentLink2Description: Datasheet; ComponentLink2URL: http://www.ti.com/general/docs/lit/getliterature.tsp?genericPartNumber=DAC8580&fileType=pdf; ComponentLink3Description: Package Specification; ComponentLink3URL: http://www.ti.com/lit/ml/mpds361/mpds361.pdf
footprint TI-PW16_N (SOP, 16-Leads, Body 5x4.4mm, Pitch 0.65mm, IPC Medium Density)
footprint TI-PW16_L (SOP, 16-Leads, Body 5x4.4mm, Pitch 0.65mm, IPC High Density)
footprint TI-PW16_M (SOP, 16-Leads, Body 5x4.4mm, Pitch 0.65mm, IPC Low Density)
pins: 1 VREF (in) "Reference input voltage; 3 V to AVDD.", 2 VOUT (out) "DAC output voltage; output swing is +/-VREF", 3 AVSS (power) "Negative analog supply voltage; tie to -5 V", 4 AVDD (power) "Positive analog supply voltage; tie to +5 V", 5 AGND (power) "Ground reference for analog circuitry of the device", 6 ~{BPB} (in) "Active-low, asynchronous digital input for filter bypass", 7 OSR2 (in) "Digital input for selecting the oversampling ratio", 8 OSR1 (in) "Digital input for selecting the oversampling ratio", 9 DIN (in) "Digital input, serial data", 10 SCLK (in) "Digital input, serial bit clock", 11 FSYNC (in) "Digital input. FSYNC is word clock.", 12 DGND (power) "Ground reference for digital circuitry", 13 DVDD (power) "Positive digital supply, 1.8-V to 5.5-V compatible", 14 ~{MUTEB} (in) "Digital input, actime low, for forcing the output to mid-scale.", 15 ~{RSTB} (in) "Filter reset. Active-low, asynchronous digital input for disabling all digital filter activity.", 16 DGND (power) "Must connect to digital ground reference to ensure correct operation."

## DAC8580IPWR
designator U?
16-Bit, High Speed, Low Noise, Voltage Output, Digital to Analog Converter, -40 to 85 degC, 16-pin SOP (PW16), Green (RoHS & no Sb/Br); Manufacturer: Texas Instruments; PartNumber: DAC8580IPWR; DAC Channels: 1; Interface: Serial SPI; Power Consumption(Typ)(mW): 175; Resolution(Bits): 16; Settling Time(us): 0.65; SFDR(dB): 100; SNR(dB): 110; SubFamily: Precision DAC (=<10MSPS); DatasheetVersion: SLAS458B; PackageVersion: 4040064-4/G, 02/2011; PackageReference: PW16; PackageDescription: 16-Pin Plastic Small Outline, Body 5 x 4.4 mm, Pitch 0.65 mm; Supplier 1: Digi-Key; Supplier Part Number 1: DAC8580IPWR-ND; Supplier 2: Mouser; Supplier Part Number 2: 595-DAC8580IPWR; DNL(Max)(+/-LSB): 1; Eco-Plan: Green (RoHS & no Sb/Br); Mounting Technology: Surface Mount; Code_JEDEC: MO-153; ComponentLink1Description: Manufacturer URL; ComponentLink1URL: http://www.ti.com/; ComponentLink2Description: Datasheet; ComponentLink2URL: http://www.ti.com/general/docs/lit/getliterature.tsp?genericPartNumber=DAC8580&fileType=pdf; ComponentLink3Description: Package Specification; ComponentLink3URL: http://www.ti.com/lit/ml/mpds361/mpds361.pdf
footprint TI-PW16_N (SOP, 16-Leads, Body 5x4.4mm, Pitch 0.65mm, IPC Medium Density)
footprint TI-PW16_L (SOP, 16-Leads, Body 5x4.4mm, Pitch 0.65mm, IPC High Density)
footprint TI-PW16_M (SOP, 16-Leads, Body 5x4.4mm, Pitch 0.65mm, IPC Low Density)
pins: 1 VREF (in) "Reference input voltage; 3 V to AVDD.", 2 VOUT (out) "DAC output voltage; output swing is +/-VREF", 3 AVSS (power) "Negative analog supply voltage; tie to -5 V", 4 AVDD (power) "Positive analog supply voltage; tie to +5 V", 5 AGND (power) "Ground reference for analog circuitry of the device", 6 ~{BPB} (in) "Active-low, asynchronous digital input for filter bypass", 7 OSR2 (in) "Digital input for selecting the oversampling ratio", 8 OSR1 (in) "Digital input for selecting the oversampling ratio", 9 DIN (in) "Digital input, serial data", 10 SCLK (in) "Digital input, serial bit clock", 11 FSYNC (in) "Digital input. FSYNC is word clock.", 12 DGND (power) "Ground reference for digital circuitry", 13 DVDD (power) "Positive digital supply, 1.8-V to 5.5-V compatible", 14 ~{MUTEB} (in) "Digital input, actime low, for forcing the output to mid-scale.", 15 ~{RSTB} (in) "Filter reset. Active-low, asynchronous digital input for disabling all digital filter activity.", 16 DGND (power) "Must connect to digital ground reference to ensure correct operation."

## DAC8580IPWRG4
designator U?
16-Bit, High Speed, Low Noise, Voltage Output, Digital to Analog Converter, -40 to 85 degC, 16-pin SOP (PW16), Green (RoHS & no Sb/Br); Manufacturer: Texas Instruments; PartNumber: DAC8580IPWRG4; DAC Channels: 1; Interface: Serial SPI; Power Consumption(Typ)(mW): 175; Resolution(Bits): 16; Settling Time(us): 0.65; SFDR(dB): 100; SNR(dB): 110; SubFamily: Precision DAC (=<10MSPS); DatasheetVersion: SLAS458B; PackageVersion: 4040064-4/G, 02/2011; PackageReference: PW16; PackageDescription: 16-Pin Plastic Small Outline, Body 5 x 4.4 mm, Pitch 0.65 mm; Supplier 1: Digi-Key; Supplier Part Number 1: DAC8580IPWRG4-ND; Supplier 2: Mouser; Supplier Part Number 2: 595-DAC8580IPWRG4; DNL(Max)(+/-LSB): 1; Eco-Plan: Green (RoHS & no Sb/Br); Mounting Technology: Surface Mount; Code_JEDEC: MO-153; ComponentLink1Description: Manufacturer URL; ComponentLink1URL: http://www.ti.com/; ComponentLink2Description: Datasheet; ComponentLink2URL: http://www.ti.com/general/docs/lit/getliterature.tsp?genericPartNumber=DAC8580&fileType=pdf; ComponentLink3Description: Package Specification; ComponentLink3URL: http://www.ti.com/lit/ml/mpds361/mpds361.pdf
footprint TI-PW16_N (SOP, 16-Leads, Body 5x4.4mm, Pitch 0.65mm, IPC Medium Density)
footprint TI-PW16_L (SOP, 16-Leads, Body 5x4.4mm, Pitch 0.65mm, IPC High Density)
footprint TI-PW16_M (SOP, 16-Leads, Body 5x4.4mm, Pitch 0.65mm, IPC Low Density)
pins: 1 VREF (in) "Reference input voltage; 3 V to AVDD.", 2 VOUT (out) "DAC output voltage; output swing is +/-VREF", 3 AVSS (power) "Negative analog supply voltage; tie to -5 V", 4 AVDD (power) "Positive analog supply voltage; tie to +5 V", 5 AGND (power) "Ground reference for analog circuitry of the device", 6 ~{BPB} (in) "Active-low, asynchronous digital input for filter bypass", 7 OSR2 (in) "Digital input for selecting the oversampling ratio", 8 OSR1 (in) "Digital input for selecting the oversampling ratio", 9 DIN (in) "Digital input, serial data", 10 SCLK (in) "Digital input, serial bit clock", 11 FSYNC (in) "Digital input. FSYNC is word clock.", 12 DGND (power) "Ground reference for digital circuitry", 13 DVDD (power) "Positive digital supply, 1.8-V to 5.5-V compatible", 14 ~{MUTEB} (in) "Digital input, actime low, for forcing the output to mid-scale.", 15 ~{RSTB} (in) "Filter reset. Active-low, asynchronous digital input for disabling all digital filter activity.", 16 DGND (power) "Must connect to digital ground reference to ensure correct operation."

## DAC8581IPW
designator U?
16-Bit, High Speed, Low Noise, Voltage Output Digital to Analog Converter, -40 to 85 degC, 16-pin SOP (PW16), Green (RoHS & no Sb/Br); Manufacturer: Texas Instruments; PartNumber: DAC8581IPW; DAC Channels: 1; DNL(Max)(+/-LSB): 0.5; Interface: Serial SPI; Power Consumption(Typ)(mW): 175; Resolution(Bits): 16; Settling Time(us): 0.65; SNR(dB): 108; SubFamily: Precision DAC (=<10MSPS); DatasheetVersion: SLAS481C; PackageVersion: 4040064-4/G, 02/2011; PackageReference: PW16; PackageDescription: 16-Pin Plastic Small Outline, Body 5 x 4.4 mm, Pitch 0.65 mm; Supplier 1: Digi-Key; Supplier Part Number 1: 296-18312-5-ND; Supplier 2: Newark; Supplier Part Number 2: 53K9304; Supplier 3: Mouser; Supplier Part Number 3: 595-DAC8581IPW; Eco-Plan: Green (RoHS & no Sb/Br); Mounting Technology: Surface Mount; Code_JEDEC: MO-153; ComponentLink1Description: Manufacturer URL; ComponentLink1URL: http://www.ti.com/; ComponentLink2Description: Datasheet; ComponentLink2URL: http://www.ti.com/general/docs/lit/getliterature.tsp?genericPartNumber=DAC8581&fileType=pdf; ComponentLink3Description: Package Specification; ComponentLink3URL: http://www.ti.com/lit/ml/mpds361/mpds361.pdf
footprint TI-PW16_N (SOP, 16-Leads, Body 5x4.4mm, Pitch 0.65mm, IPC Medium Density)
footprint TI-PW16_L (SOP, 16-Leads, Body 5x4.4mm, Pitch 0.65mm, IPC High Density)
footprint TI-PW16_M (SOP, 16-Leads, Body 5x4.4mm, Pitch 0.65mm, IPC Low Density)
part A pins: 1 VREF (in) "Reference input voltage.", 2 VOUT (out) "DAC output voltage. Output swing is +/-VREF", 9 SDIN (in) "Digital input, serial data. Ignored when C\S\ is high.", 10 SCLK (in) "Digital input, serial bit clock. Ignored when C\S\ is high.", 11 ~{CS} (in) "Digital input. Chip Select (C\S\) signal. Active low. When C\S\ is high, SCLK and SDI are ignored. When C\S\ is low, data can be transferred into the device.", 14 ~{CLR} (in) "Digital input for forcing the output to midscale. Active low. When pin C\L\R\ is low during 16th SCLK following the falling edge of C\S\, the falling edge of 16th SCLK sets DAC Latch to midcode, and the DAC output to 0 V. (See Datasheet)"
part B pins: 3 AVSS (power) "Negative analog supply voltage, tie to -5 V", 4 AVDD (power) "Positive analog supply voltage, tie to +5 V", 5 AGND (power) "The ground reference point of all analog circuitry of the device. Tie to 0 V.", 6 DGND (power) "Tie to DGND to ensure correct operation.", 7 DGND (power) "Tie to DGND to ensure correct operation.", 8 DGND (power) "Tie to DGND to ensure correct operation.", 12 DGND (power) "Ground reference for digital circuitry. Tie to 0 V.", 13 DVDD (power) "Positive digital supply, 1.8 V-5.5 V compatible", 15 DGND (power) "Tie to DGND to ensure correct operation.", 16 DVDD (power) "Tie to DVDD to ensure correct operation."

## DAC8581IPWG4
designator U?
16-Bit, High Speed, Low Noise, Voltage Output Digital to Analog Converter, -40 to 85 degC, 16-pin SOP (PW16), Green (RoHS & no Sb/Br); Manufacturer: Texas Instruments; PartNumber: DAC8581IPWG4; DAC Channels: 1; DNL(Max)(+/-LSB): 0.5; Interface: Serial SPI; Power Consumption(Typ)(mW): 175; Resolution(Bits): 16; Settling Time(us): 0.65; SNR(dB): 108; SubFamily: Precision DAC (=<10MSPS); DatasheetVersion: SLAS481C; PackageVersion: 4040064-4/G, 02/2011; PackageReference: PW16; PackageDescription: 16-Pin Plastic Small Outline, Body 5 x 4.4 mm, Pitch 0.65 mm; Supplier 1: Digi-Key; Supplier Part Number 1: DAC8581IPWG4-ND; Supplier 2: Mouser; Supplier Part Number 2: 595-DAC8581IPWG4; Eco-Plan: Green (RoHS & no Sb/Br); Mounting Technology: Surface Mount; Code_JEDEC: MO-153; ComponentLink1Description: Manufacturer URL; ComponentLink1URL: http://www.ti.com/; ComponentLink2Description: Datasheet; ComponentLink2URL: http://www.ti.com/general/docs/lit/getliterature.tsp?genericPartNumber=DAC8581&fileType=pdf; ComponentLink3Description: Package Specification; ComponentLink3URL: http://www.ti.com/lit/ml/mpds361/mpds361.pdf
footprint TI-PW16_N (SOP, 16-Leads, Body 5x4.4mm, Pitch 0.65mm, IPC Medium Density)
footprint TI-PW16_L (SOP, 16-Leads, Body 5x4.4mm, Pitch 0.65mm, IPC High Density)
footprint TI-PW16_M (SOP, 16-Leads, Body 5x4.4mm, Pitch 0.65mm, IPC Low Density)
part A pins: 1 VREF (in) "Reference input voltage.", 2 VOUT (out) "DAC output voltage. Output swing is +/-VREF", 9 SDIN (in) "Digital input, serial data. Ignored when C\S\ is high.", 10 SCLK (in) "Digital input, serial bit clock. Ignored when C\S\ is high.", 11 ~{CS} (in) "Digital input. Chip Select (C\S\) signal. Active low. When C\S\ is high, SCLK and SDI are ignored. When C\S\ is low, data can be transferred into the device.", 14 ~{CLR} (in) "Digital input for forcing the output to midscale. Active low. When pin C\L\R\ is low during 16th SCLK following the falling edge of C\S\, the falling edge of 16th SCLK sets DAC Latch to midcode, and the DAC output to 0 V. (See Datasheet)"
part B pins: 3 AVSS (power) "Negative analog supply voltage, tie to -5 V", 4 AVDD (power) "Positive analog supply voltage, tie to +5 V", 5 AGND (power) "The ground reference point of all analog circuitry of the device. Tie to 0 V.", 6 DGND (power) "Tie to DGND to ensure correct operation.", 7 DGND (power) "Tie to DGND to ensure correct operation.", 8 DGND (power) "Tie to DGND to ensure correct operation.", 12 DGND (power) "Ground reference for digital circuitry. Tie to 0 V.", 13 DVDD (power) "Positive digital supply, 1.8 V-5.5 V compatible", 15 DGND (power) "Tie to DGND to ensure correct operation.", 16 DVDD (power) "Tie to DVDD to ensure correct operation."